# Altium schematic symbol library WQP_WQP729JH-B.SchLib: 1 symbol
Pins are listed as number, name and electrical type; pins without a type are passive.

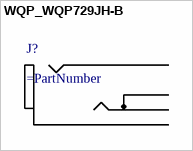
[diagram p0: symbol WQP_WQP729JH-B]

## WQP_WQP729JH-B
designator J?
pins: 1, 2, 3, 4